# Altium schematic symbol library KDS184.SchLib: 1 symbol
Pins are listed as number, name and electrical type; pins without a type are passive.

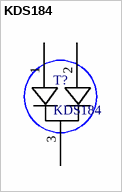
[diagram p0: symbol KDS184]

## KDS184
designator T?
footprint KDS184
pins: 1 25, 2 26, 3 27